# EAGLE library part ADL5330 (library Lasser)
Analog Devices ADL5330 VGA 10MHz - 3GHz 60dB Gain Optimized for Controlling Output Power
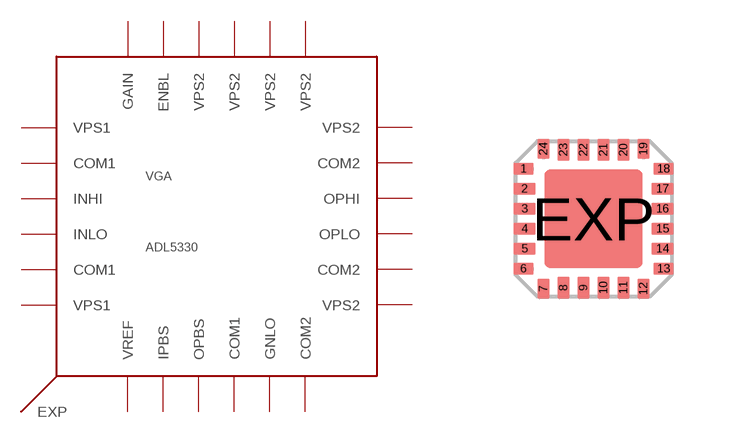
[diagram p8: symbol with the pads of LFCSP24-2; footprint LFCSP24-2]

Designator prefix VGA

## ADL5330  [LFCSP24-2]
1  VPS1
2  COM1
3  INHI
4  INLO
5  COM1
6  VPS1
7  VREF
8  IPBS
9  OPBS
10  COM1
11  GNLO
12  COM2
13  VPS2
14  COM2
15  OPLO
16  OPHI
17  COM2
18  VPS2
19  VPS2
20  VPS2
21  VPS2
22  VPS2
23  ENBL
24  GAIN
EXP  EXP

## Footprint LFCSP24-2 (pad centres in mm)
24-Lead Lead Frame Chip Scale Package 4 mm × 4 mm (CP-24-2) Source: ADL5330 Datasheet. Entspricht CP-24 bis auf größeres Mittelpad
smd 0.5 x 0.3: 1 -1.75,1.25; 6 -1.75,-1.25; 13 1.75,-1.25; 18 1.75,1.25
smd 0.55 x 0.3: 2 -1.725,0.75; 3 -1.725,0.25; 4 -1.725,-0.25; 5 -1.725,-0.75; 14 1.725,-0.75; 15 1.725,-0.25; 16 1.725,0.25; 17 1.725,0.75
smd 0.3 x 0.5: 7 -1.25,-1.75; 12 1.25,-1.75; 19 1.25,1.75; 24 -1.25,1.75
smd 0.3 x 0.55: 8 -0.75,-1.725; 9 -0.25,-1.725; 10 0.25,-1.725; 11 0.75,-1.725; 20 0.75,1.725; 21 0.25,1.725; 22 -0.25,1.725; 23 -0.75,1.725
smd 2.45 x 2.45: EXP 0,0